# Altium schematic symbol library Protection TVS.SchLib: 4 symbols
Pins are listed as number, name and electrical type; pins without a type are passive.

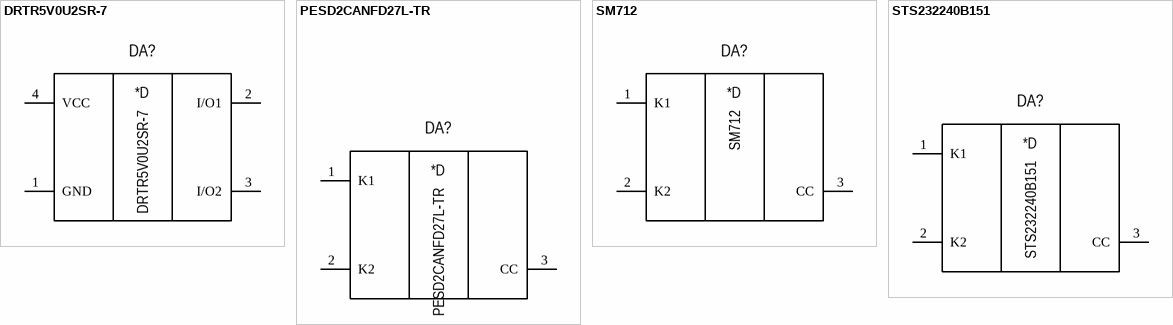
[diagram p0: symbols DRTR5V0U2SR-7 to STS232240B151]

## DRTR5V0U2SR-7
designator DA?
Diode TVS Array 2Ch USB SOT-143; Manufacturer: Diodes Incorporated; Group: TVS - Diodes; Package: SOT-143; Part name: DRTR5V0U2SR-7
footprint SOT-143
pins: 1 GND "Ground pin", 2 I/O1, 3 I/O2, 4 VCC
text: *D

## PESD2CANFD27L-TR
designator DA?
Diode TVS Array 2Ch CAN SOT-23-3; Manufacturer: Nexperia; Group: TVS - Diodes; Package: SOT-23-3; Part name: PESD2CANFD27L-TR
footprint SOT-23-3L
footprint SOT-23-3N
pins: 1 K1 "Cathode", 2 K2 "Cathode", 3 CC "Common cathode"
text: *D

## SM712
designator DA?
Diode TVS Array 2Ch; Manufacturer: Semtech; Group: TVS - Diodes; Package: SOT-23-3; Part name: SM712
footprint SOT-23-3N
footprint SOT-23-3L
pins: 1 K1 "Cathode", 2 K2 "Cathode", 3 CC "Common cathode"
text: *D

## STS232240B151
designator DA?
Diode TVS Array 2Ch SOT-23-3; Manufacturer: Eaton; Group: TVS - Diodes; Package: SOT-23-3; Part name: STS232240B151
footprint SOT-23-3N
footprint SOT-23-3L
pins: 1 K1 "Cathode", 2 K2 "Cathode", 3 CC "Common cathode"
text: *D